# Altium footprint library PCB - CONNECTOR - HARWIN - HARWIN M20-7821245.PcbLib: 1 footprints
Each footprint in its own frame and in the unit in brackets; x right, y up, seen from the top. Pads: shape width x height; smd on the part's side, far side on the other; paste and mask are expansions set on the pad; w line width, h text height; cw(c..) or ccw(c..) is an arc to the next point about the centre after c.
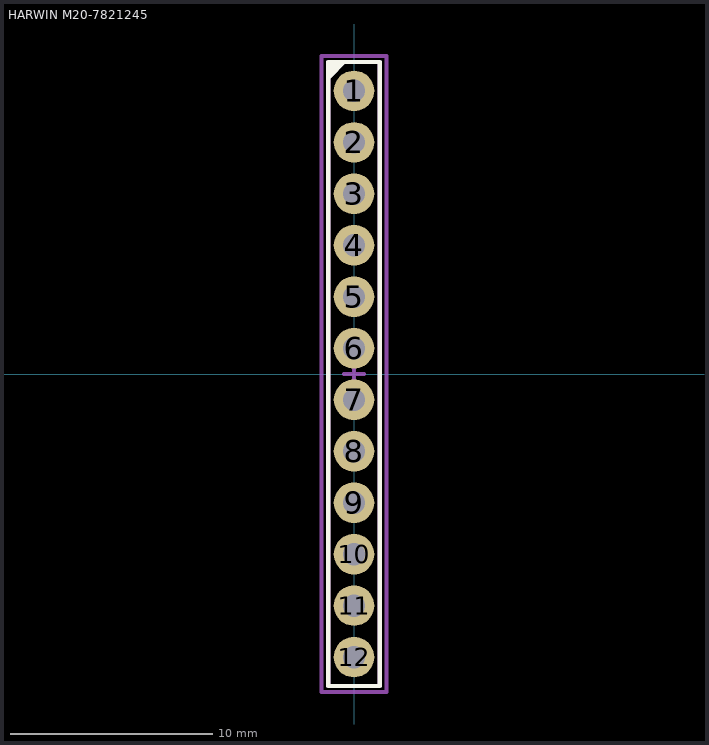
[diagram p0: the footprint, top view; thin cyan lines are the x and y axes]

## HARWIN M20-7821245 [mm] "2.54mm DIL PC TAIL PIN HEADER ASSEMBLY"
height 5
pads (12):
  round 2 hole 1.1: 1(0,13.97) 2(0,11.43) 3(0,8.89) 4(0,6.35) 5(0,3.81) 6(0,1.27) 7(0,-1.27) 8(0,-3.81) 9(0,-6.35) 10(0,-8.89) 11(0,-11.43) 12(0,-13.97)
Top Overlay:
  region: -1.23,15.43 -1.23,14.53 -0.33,15.43
  lines w0.2: -1.27,-15.4 -1.27,15.4 1.27,15.4 1.27,-15.4 -1.27,-15.4
Top Assembly:
  lines w0.2: -0.5,0 0.5,0 ; 0,-0.5 0,0.5 ; -1.27,-15.4 -1.27,15.4 1.27,15.4 1.27,-15.4 -1.27,-15.4
Top Courtyard (Mech15):
  lines w0.2: -1.6,-15.7 -1.6,15.7 1.6,15.7 1.6,-15.7 -1.6,-15.7
3D body "M20-7821242.step": height 8.5, standoff -3, extent -1.25,-15.44 1.25,15.44